# EAGLE library part 742-8_S (library resistor-array)
CTS 742 Series 8 Terminations, 4 Resistors
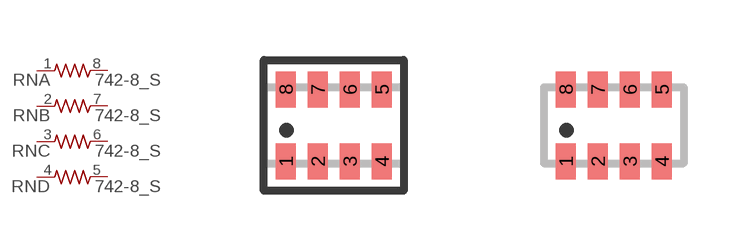
[diagram p10: symbol with the pads of 742-8; footprints 742-8, 742-8NS]

Designator prefix RN; gates A=R1NV B=R1NV C=R1NV D=R1NV

## 742-8_S  [742-8]
1  A:1  pas
2  B:1  pas
3  C:1  pas
4  D:1  pas
5  D:2  pas
6  C:2  pas
7  B:2  pas
8  A:2  pas

## 742-8_SNS  [742-8NS]
Pads as for 742-8

## Footprint 742-8 (pad centres in mm)
CTS 742 Series 8 Terminations, 4 Resistors
smd 0.5 x 0.9: 1 -1.2,-0.9; 2 -0.4,-0.9; 3 0.4,-0.9; 4 1.2,-0.9; 5 1.2,0.9; 6 0.4,0.9; 7 -0.4,0.9; 8 -1.2,0.9

## Footprint 742-8NS (pad centres in mm)
CTS 742 Series 8 Terminations, 4 Resistors
smd 0.5 x 0.9: 1 -1.2,-0.9; 2 -0.4,-0.9; 3 0.4,-0.9; 4 1.2,-0.9; 5 1.2,0.9; 6 0.4,0.9; 7 -0.4,0.9; 8 -1.2,0.9